# EAGLE library part CON8X1 (library Stecker_Pins)
Pin-Leiste, 8*1
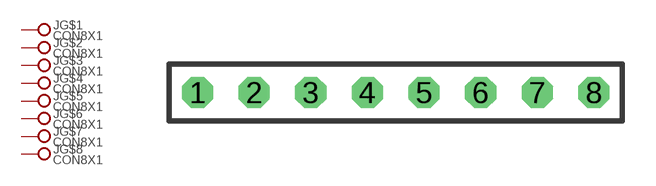
[diagram p21: symbol with the pads of CON8X1; footprint CON8X1]

Designator prefix J; gates G$1=CON1M_V G$2=CON1M_V G$3=CON1M_V G$4=CON1M_V G$5=CON1M_V G$6=CON1M_V G$7=CON1M_V G$8=CON1M_V

## CON8X1  [CON8X1]
1  G$1:1
2  G$2:1
3  G$3:1
4  G$4:1
5  G$5:1
6  G$6:1
7  G$7:1
8  G$8:1

## Footprint CON8X1 (pad centres in mm)
drill 0.8 pad 1.397 octagon: 1 -8.89,0; 2 -6.35,0; 3 -3.81,0; 4 -1.27,0; 5 1.27,0; 6 3.81,0; 7 6.35,0; 8 8.89,0